# Altium integrated library lib_st.IntLib: 440 symbols (part 19 of 57)
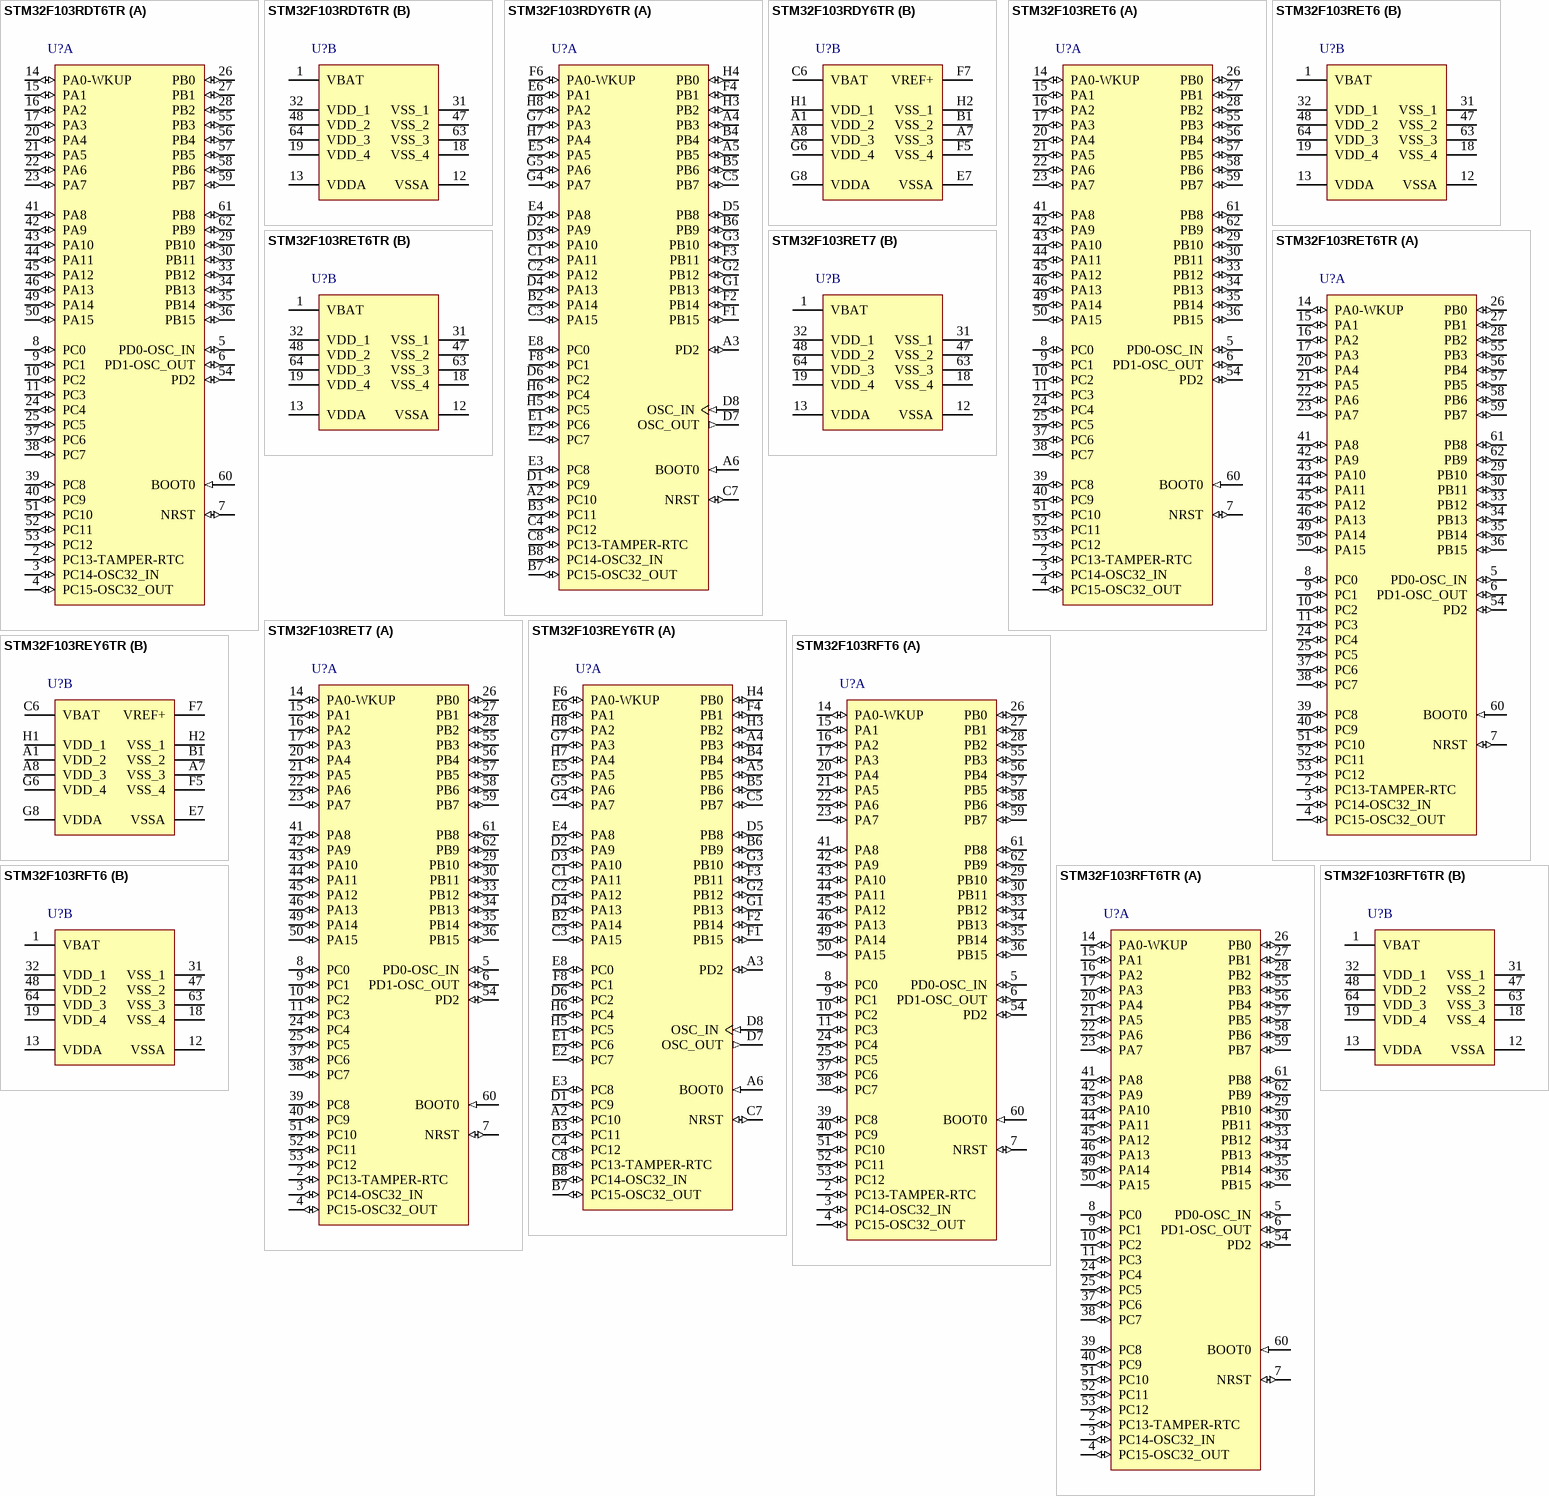
[diagram p106: symbols STM32F103RDT6TR to STM32F103RFT6TR]

## STM32F103RFT6TR
designator U?
ARM Cortex-M3 32-bit MCU, 768 KB Flash, 96 KB Internal RAM, 51 I/Os, 64-pin LQFP, -40 to 85 degC, Tape and Reel; PartNumber: STM32F103RFT6TR; A/D Converter: 3x12-bit (16 Channel); D/A Converter: 2x12-bit (2 Channel); FLASH Size (Prog) (kB): 768; I/Os (High Current): 51; Internal RAM Size (kB): 96; Operating Frequency(F) (Processor speed) (MHz): 72; Supply Voltage(Vcc) min (V): 2; DatasheetVersion: Rev. 3; PackageVersion: Rev. 4, 06/2013; PackageReference: LQFP64; PackageDescription: 64-Pin Low Profile Quad Flat Package, 10 x 10 mm Body, 0.5 mm Pitch; Supplier 1: Digi-Key; Supplier Part Number 1: STM32F103RFT6TR-ND; Supplier 2: Mouser; Supplier Part Number 2: 511-STM32F103RFT6TR; Core: ARM Cortex-M3; Packing: Tape and Reel; Mounting Technology: Surface Mount; ComponentLink1Description: Manufacturer URL; ComponentLink1URL: http://www.st.com/web/en/home.html; ComponentLink2Description: Datasheet; ComponentLink2URL: http://www.st.com/st-web-ui/static/active/en/resource/technical/document/datasheet/CD00253742.pdf; ComponentLink3Description: Package Specification; ComponentLink3URL: http://www.st.com/st-web-ui/static/active/en/resource/technical/document/datasheet/DM00037051.pdf
footprint STM-LQFP64_N (Thin QFP, 64-Leads, Body 10x10mm, Pitch 0.5mm, IPC Medium Density)
footprint STM-LQFP64_L (Thin QFP, 64-Leads, Body 10x10mm, Pitch 0.5mm, IPC High Density)
footprint STM-LQFP64_M (Thin QFP, 64-Leads, Body 10x10mm, Pitch 0.5mm, IPC Low Density)
footprint STM-LQFP64_V (Thin QFP, 64-Leads, Body 10x10mm, Pitch 0.5mm, ST Recommended)
part A pins: 2 PC13-TAMPER-RTC (io) "PC13-TAMPER-RTC/PC13/TAMPER-RTC", 3 PC14-OSC32_IN (io) "PC14-OSC32_IN/PC14/OSC32_IN", 4 PC15-OSC32_OUT (io) "PC15-OSC32_OUT/PC15/OSC32_OUT", 5 PD0-OSC_IN (io) "PD0/OSC_IN", 6 PD1-OSC_OUT (io) "PD1/OSC_OUT", 7 NRST (io), 8 PC0 (io) "PC0/ADC123_IN10", 9 PC1 (io) "PC1/ADC123_IN11", 10 PC2 (io) "PC2/ADC123_IN12", 11 PC3 (io) "PC3/ADC123_IN13", 14 PA0-WKUP (io) "PA0-WKUP/PA0/WKUP/USART2_CTS/ADC123_IN0/TIM2_CH1_ETR/TIM5_CH1/TIM8_ETR", 15 PA1 (io) "PA1/USART2_RTS/ADC123_IN1/TIM5_CH2/TIM2_CH2", 16 PA2 (io) "PA2/USART2_TX/TIM5_CH3/ADC123_IN2/TIM9_CH1/TIM2_CH3", 17 PA3 (io) "PA3/USART2_RX/TIM5_CH4/ADC123_IN3/TIM2_CH4/TIM9_CH2", 20 PA4 (io) "PA4/SPI1_NSS/USART2_CK/DAC_OUT1/ADC12_IN4", 21 PA5 (io) "PA5/SPI1_SCK/DAC_OUT2/ADC12_IN5", 22 PA6 (io) "PA6/SPI1_MISO/TIM8_BKIN/ADC12_IN6/TIM3_CH1/TIM13_CH1/TIM1_BKIN", 23 PA7 (io) "PA7/SPI1_MOSI/TIM8_CH1N/ADC12_IN7/TIM3_CH2/TIM14_CH1/TIM1_CH1N", 24 PC4 (io) "PC4/ADC12_IN14", 25 PC5 (io) "PC5/ADC12_IN15", 26 PB0 (io) "PB0/ADC12_IN8/TIM3_CH3/TIM8_CH2N/TIM1_CH2N", 27 PB1 (io) "PB1/ADC12_IN9/TIM3_CH4/TIM8_CH3N/TIM1_CH3N", 28 PB2 (io) "PB2/BOOT1", 29 PB10 (io) "PB10/I2C2_SCL/USART3_TX/TIM2_CH3", 30 PB11 (io) "PB11/I2C2_SDA/USART3_RX/TIM2_CH4", 33 PB12 (io) "PB12/SPI2_NSS/I2S2_WS/I2C2_SMBA/USART3_CK/TIM1_BKIN", 34 PB13 (io) "PB13/SPI2_SCK/I2S2_CK/USART3_CTS/TIM1_CH1N", 35 PB14 (io) "PB14/SPI2_MISO/TIM1_CH2N/USART3_RTS/TIM12_CH1", 36 PB15 (io) "PB15/SPI2_MOSI/I2S2_SD/TIM1_CH3N/TIM12_CH2", 37 PC6 (io) "PC6/I2S2_MCK/TIM8_CH1/SDIO_D6/TIM3_CH1", 38 PC7 (io) "PC7/I2S3_MCK/TIM8_CH2/SDIO_D7/TIM3_CH2", 39 PC8 (io) "PC8/TIM8_CH3/SDIO_D0/TIM3_CH3", 40 PC9 (io) "PC9/TIM8_CH4/SDIO_D1/TIM3_CH4", 41 PA8 (io) "PA8/USART1_CK/TIM1_CH1/MCO", 42 PA9 (io) "PA9/USART1_TX/TIM1_CH2", 43 PA10 (io) "PA10/USART1_RX/TIM1_CH3", 44 PA11 (io) "PA11/USART1_CTS/USBDM/CAN_RX/TIM1_CH4", 45 PA12 (io) "PA12/USART1_RTS/USBDP/CAN_TX/TIM1_ETR", 46 PA13 (io) "PA13/JTMS-SWDIO", 49 PA14 (io) "PA14/JTCK-SWCLK", 50 PA15 (io) "PA15/JTDI/SPI3_NSS/I2S3_WS/TIM2_CH1_ETR/SPI1_NSS", 51 PC10 (io) "PC10/UART4_TX/SDIO_D2/USART3_TX", 52 PC11 (io) "PC11/UART4_RX/SDIO_D3/USART3_RX", 53 PC12 (io) "PC12/UART5_TX/SDIO_CK/USART3_CK", 54 PD2 (io) "PD2/TIM3_ETR/UART5_RX/SDIO_CMD", 55 PB3 (io) "PB3/JTDO/SPI3_SCK/I2S3_CK/TRACESWO/TIM2_CH2/SPI1_SCK", 56 PB4 (io) "PB4/NJTRST/SPI3_MISO/TIM3_CH1/SPI1_MISO", 57 PB5 (io) "PB5/I2C1_SMBA/SPI3_MOSI/I2S3_SD/TIM3_CH2/SPI1_MOSI", 58 PB6 (io) "PB6/I2C1_SCL/TIM4_CH1/USART1_TX", 59 PB7 (io) "PB7/I2C1_SDA/TIM4_CH2/USART1_RX", 60 BOOT0 (in), 61 PB8 (io) "PB8/TIM4_CH3/SDIO_D4/TIM10_CH1/I2C1_SCL/CAN_RX", 62 PB9 (io) "PB9/TIM4_CH4/SDIO_D5/TIM11_CH1/I2C1_SDA/CAN_TX"
part B pins: 1 VBAT (power), 12 VSSA (power), 13 VDDA (power), 18 VSS_4 (power), 19 VDD_4 (power), 31 VSS_1 (power), 32 VDD_1 (power), 47 VSS_2 (power), 48 VDD_2 (power), 63 VSS_3 (power), 64 VDD_3 (power)

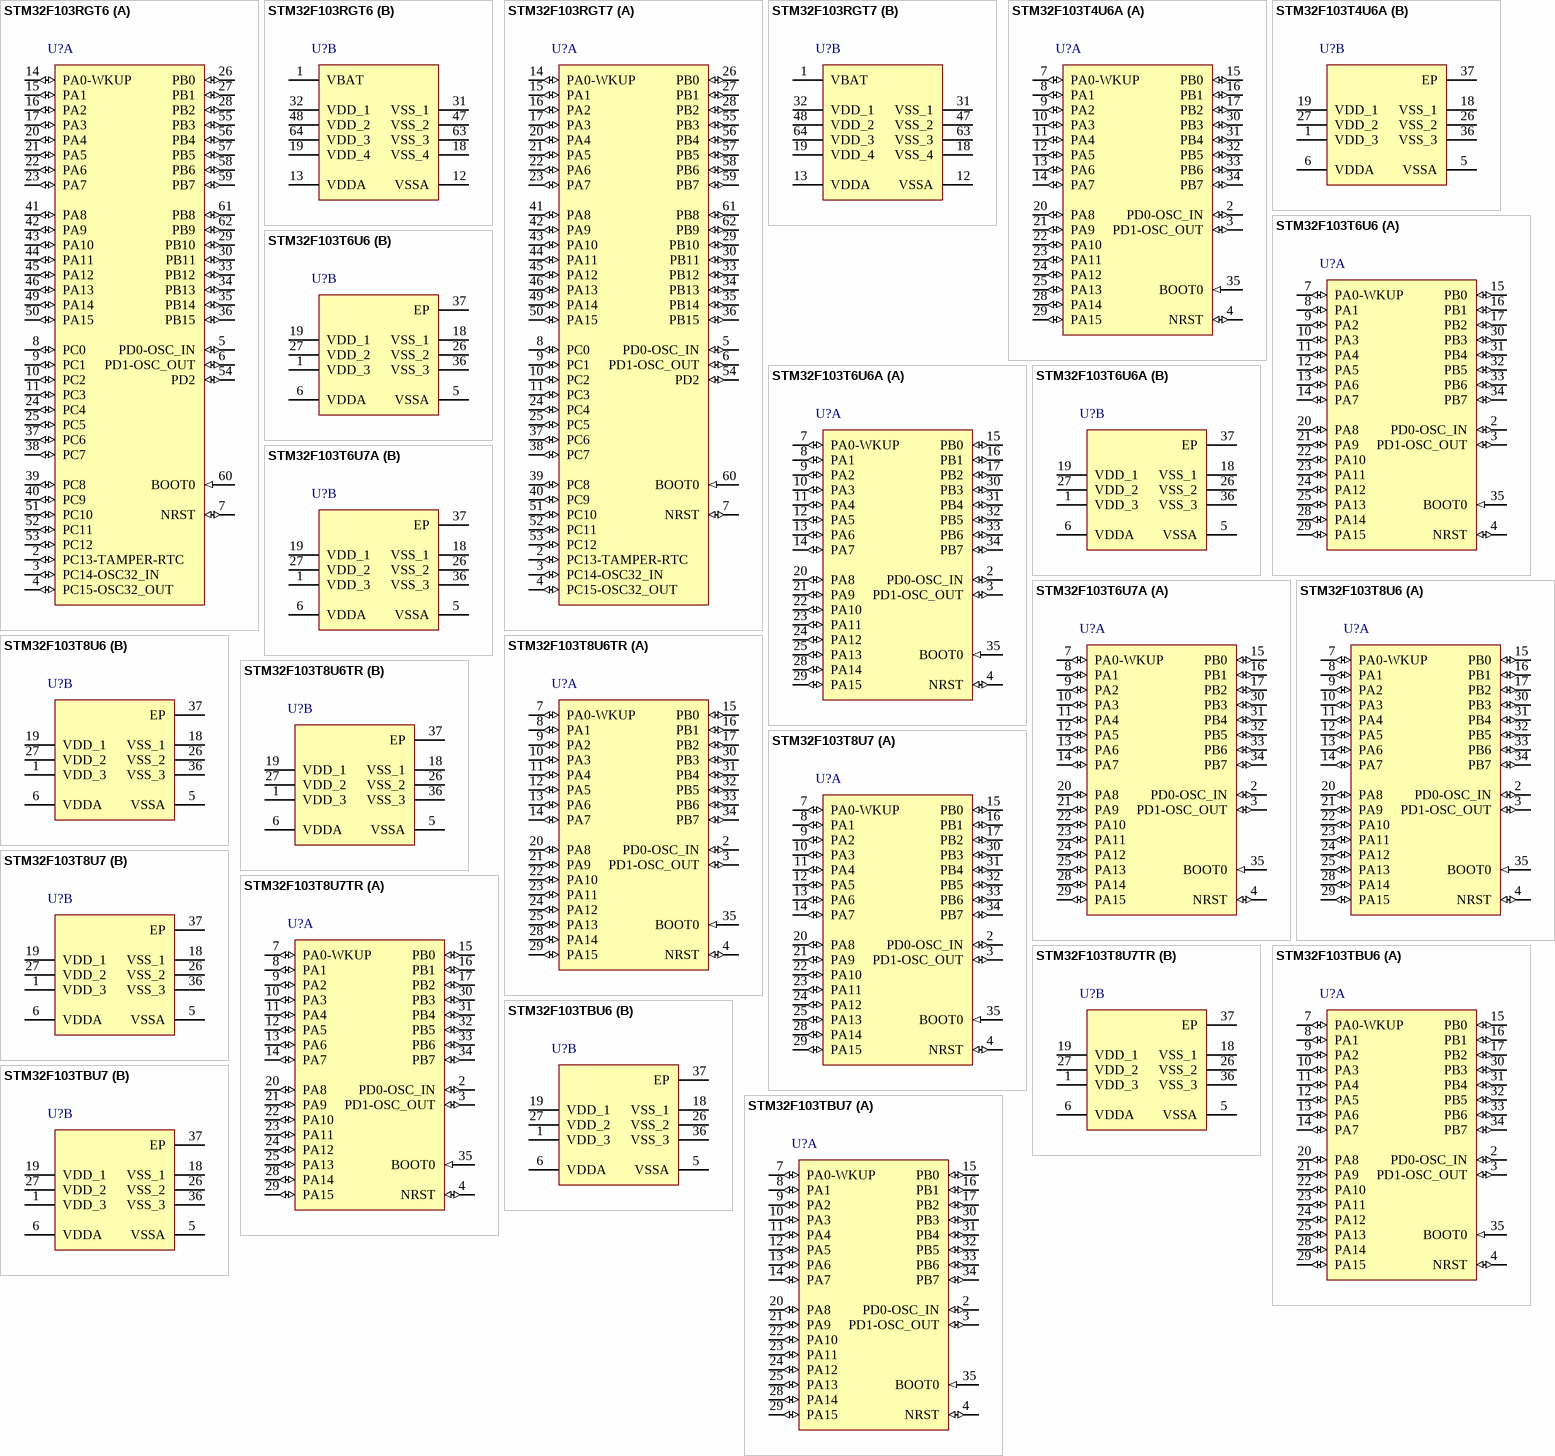
[diagram p30: symbols STM32F103RGT6 to STM32F103TBU7]

## STM32F103RGT6
designator U?
ARM Cortex-M3 32-bit MCU, 1024 KB Flash, 96 KB Internal RAM, 51 I/Os, 64-pin LQFP, -40 to 85 degC, Tray; PartNumber: STM32F103RGT6; A/D Converter: 3x12-bit (16 Channel); D/A Converter: 2x12-bit (2 Channel); FLASH Size (Prog) (kB): 1024; I/Os (High Current): 51; Internal RAM Size (kB): 96; Operating Frequency(F) (Processor speed) (MHz): 72; Supply Voltage(Vcc) min (V): 2; DatasheetVersion: Rev. 3; PackageVersion: Rev. 4, 06/2013; PackageReference: LQFP64; PackageDescription: 64-Pin Low Profile Quad Flat Package, 10 x 10 mm Body, 0.5 mm Pitch; Supplier 1: Digi-Key; Supplier Part Number 1: 497-11118-ND; Supplier 2: Farnell; Supplier Part Number 2: 2215220; Supplier 3: Newark; Supplier Part Number 3: 21T4016; Supplier 4: Mouser; Supplier Part Number 4: 511-STM32F103RGT6; Core: ARM Cortex-M3; Packing: Tray; Mounting Technology: Surface Mount; ComponentLink1Description: Manufacturer URL; ComponentLink1URL: http://www.st.com/web/en/home.html; ComponentLink2Description: Datasheet; ComponentLink2URL: http://www.st.com/st-web-ui/static/active/en/resource/technical/document/datasheet/CD00253742.pdf; ComponentLink3Description: Package Specification; ComponentLink3URL: http://www.st.com/st-web-ui/static/active/en/resource/technical/document/datasheet/DM00037051.pdf
footprint STM-LQFP64_N (Thin QFP, 64-Leads, Body 10x10mm, Pitch 0.5mm, IPC Medium Density)
footprint STM-LQFP64_L (Thin QFP, 64-Leads, Body 10x10mm, Pitch 0.5mm, IPC High Density)
footprint STM-LQFP64_M (Thin QFP, 64-Leads, Body 10x10mm, Pitch 0.5mm, IPC Low Density)
footprint STM-LQFP64_V (Thin QFP, 64-Leads, Body 10x10mm, Pitch 0.5mm, ST Recommended)
part A pins: 2 PC13-TAMPER-RTC (io) "PC13-TAMPER-RTC/PC13/TAMPER-RTC", 3 PC14-OSC32_IN (io) "PC14-OSC32_IN/PC14/OSC32_IN", 4 PC15-OSC32_OUT (io) "PC15-OSC32_OUT/PC15/OSC32_OUT", 5 PD0-OSC_IN (io) "PD0/OSC_IN", 6 PD1-OSC_OUT (io) "PD1/OSC_OUT", 7 NRST (io), 8 PC0 (io) "PC0/ADC123_IN10", 9 PC1 (io) "PC1/ADC123_IN11", 10 PC2 (io) "PC2/ADC123_IN12", 11 PC3 (io) "PC3/ADC123_IN13", 14 PA0-WKUP (io) "PA0-WKUP/PA0/WKUP/USART2_CTS/ADC123_IN0/TIM2_CH1_ETR/TIM5_CH1/TIM8_ETR", 15 PA1 (io) "PA1/USART2_RTS/ADC123_IN1/TIM5_CH2/TIM2_CH2", 16 PA2 (io) "PA2/USART2_TX/TIM5_CH3/ADC123_IN2/TIM9_CH1/TIM2_CH3", 17 PA3 (io) "PA3/USART2_RX/TIM5_CH4/ADC123_IN3/TIM2_CH4/TIM9_CH2", 20 PA4 (io) "PA4/SPI1_NSS/USART2_CK/DAC_OUT1/ADC12_IN4", 21 PA5 (io) "PA5/SPI1_SCK/DAC_OUT2/ADC12_IN5", 22 PA6 (io) "PA6/SPI1_MISO/TIM8_BKIN/ADC12_IN6/TIM3_CH1/TIM13_CH1/TIM1_BKIN", 23 PA7 (io) "PA7/SPI1_MOSI/TIM8_CH1N/ADC12_IN7/TIM3_CH2/TIM14_CH1/TIM1_CH1N", 24 PC4 (io) "PC4/ADC12_IN14", 25 PC5 (io) "PC5/ADC12_IN15", 26 PB0 (io) "PB0/ADC12_IN8/TIM3_CH3/TIM8_CH2N/TIM1_CH2N", 27 PB1 (io) "PB1/ADC12_IN9/TIM3_CH4/TIM8_CH3N/TIM1_CH3N", 28 PB2 (io) "PB2/BOOT1", 29 PB10 (io) "PB10/I2C2_SCL/USART3_TX/TIM2_CH3", 30 PB11 (io) "PB11/I2C2_SDA/USART3_RX/TIM2_CH4", 33 PB12 (io) "PB12/SPI2_NSS/I2S2_WS/I2C2_SMBA/USART3_CK/TIM1_BKIN", 34 PB13 (io) "PB13/SPI2_SCK/I2S2_CK/USART3_CTS/TIM1_CH1N", 35 PB14 (io) "PB14/SPI2_MISO/TIM1_CH2N/USART3_RTS/TIM12_CH1", 36 PB15 (io) "PB15/SPI2_MOSI/I2S2_SD/TIM1_CH3N/TIM12_CH2", 37 PC6 (io) "PC6/I2S2_MCK/TIM8_CH1/SDIO_D6/TIM3_CH1", 38 PC7 (io) "PC7/I2S3_MCK/TIM8_CH2/SDIO_D7/TIM3_CH2", 39 PC8 (io) "PC8/TIM8_CH3/SDIO_D0/TIM3_CH3", 40 PC9 (io) "PC9/TIM8_CH4/SDIO_D1/TIM3_CH4", 41 PA8 (io) "PA8/USART1_CK/TIM1_CH1/MCO", 42 PA9 (io) "PA9/USART1_TX/TIM1_CH2", 43 PA10 (io) "PA10/USART1_RX/TIM1_CH3", 44 PA11 (io) "PA11/USART1_CTS/USBDM/CAN_RX/TIM1_CH4", 45 PA12 (io) "PA12/USART1_RTS/USBDP/CAN_TX/TIM1_ETR", 46 PA13 (io) "PA13/JTMS-SWDIO", 49 PA14 (io) "PA14/JTCK-SWCLK", 50 PA15 (io) "PA15/JTDI/SPI3_NSS/I2S3_WS/TIM2_CH1_ETR/SPI1_NSS", 51 PC10 (io) "PC10/UART4_TX/SDIO_D2/USART3_TX", 52 PC11 (io) "PC11/UART4_RX/SDIO_D3/USART3_RX", 53 PC12 (io) "PC12/UART5_TX/SDIO_CK/USART3_CK", 54 PD2 (io) "PD2/TIM3_ETR/UART5_RX/SDIO_CMD", 55 PB3 (io) "PB3/JTDO/SPI3_SCK/I2S3_CK/TRACESWO/TIM2_CH2/SPI1_SCK", 56 PB4 (io) "PB4/NJTRST/SPI3_MISO/TIM3_CH1/SPI1_MISO", 57 PB5 (io) "PB5/I2C1_SMBA/SPI3_MOSI/I2S3_SD/TIM3_CH2/SPI1_MOSI", 58 PB6 (io) "PB6/I2C1_SCL/TIM4_CH1/USART1_TX", 59 PB7 (io) "PB7/I2C1_SDA/TIM4_CH2/USART1_RX", 60 BOOT0 (in), 61 PB8 (io) "PB8/TIM4_CH3/SDIO_D4/TIM10_CH1/I2C1_SCL/CAN_RX", 62 PB9 (io) "PB9/TIM4_CH4/SDIO_D5/TIM11_CH1/I2C1_SDA/CAN_TX"
part B pins: 1 VBAT (power), 12 VSSA (power), 13 VDDA (power), 18 VSS_4 (power), 19 VDD_4 (power), 31 VSS_1 (power), 32 VDD_1 (power), 47 VSS_2 (power), 48 VDD_2 (power), 63 VSS_3 (power), 64 VDD_3 (power)

## STM32F103RGT7
designator U?
ARM Cortex-M3 32-bit MCU, 1024 KB Flash, 96 KB Internal RAM, 51 I/Os, 64-pin LQFP, -40 to 105 degC, Tray; PartNumber: STM32F103RGT7; A/D Converter: 3x12-bit (16 Channel); D/A Converter: 2x12-bit (2 Channel); FLASH Size (Prog) (kB): 1024; I/Os (High Current): 51; Internal RAM Size (kB): 96; Operating Frequency(F) (Processor speed) (MHz): 72; Supply Voltage(Vcc) min (V): 2; DatasheetVersion: Rev. 3; PackageVersion: Rev. 4, 06/2013; PackageReference: LQFP64; PackageDescription: 64-Pin Low Profile Quad Flat Package, 10 x 10 mm Body, 0.5 mm Pitch; Supplier 1: Digi-Key; Supplier Part Number 1: STM32F103RGT7-ND; Supplier 2: Farnell; Supplier Part Number 2: 2333174; Supplier 3: Newark; Supplier Part Number 3: 99W9789; Supplier 4: Newark; Supplier Part Number 4: 73T2303; Supplier 5: Mouser; Supplier Part Number 5: 511-STM32F103RGT7; Core: ARM Cortex-M3; Packing: Tray; Mounting Technology: Surface Mount; ComponentLink1Description: Manufacturer URL; ComponentLink1URL: http://www.st.com/web/en/home.html; ComponentLink2Description: Datasheet; ComponentLink2URL: http://www.st.com/st-web-ui/static/active/en/resource/technical/document/datasheet/CD00253742.pdf; ComponentLink3Description: Package Specification; ComponentLink3URL: http://www.st.com/st-web-ui/static/active/en/resource/technical/document/datasheet/DM00037051.pdf
footprint STM-LQFP64_N (Thin QFP, 64-Leads, Body 10x10mm, Pitch 0.5mm, IPC Medium Density)
footprint STM-LQFP64_L (Thin QFP, 64-Leads, Body 10x10mm, Pitch 0.5mm, IPC High Density)
footprint STM-LQFP64_M (Thin QFP, 64-Leads, Body 10x10mm, Pitch 0.5mm, IPC Low Density)
footprint STM-LQFP64_V (Thin QFP, 64-Leads, Body 10x10mm, Pitch 0.5mm, ST Recommended)
part A pins: 2 PC13-TAMPER-RTC (io) "PC13-TAMPER-RTC/PC13/TAMPER-RTC", 3 PC14-OSC32_IN (io) "PC14-OSC32_IN/PC14/OSC32_IN", 4 PC15-OSC32_OUT (io) "PC15-OSC32_OUT/PC15/OSC32_OUT", 5 PD0-OSC_IN (io) "PD0/OSC_IN", 6 PD1-OSC_OUT (io) "PD1/OSC_OUT", 7 NRST (io), 8 PC0 (io) "PC0/ADC123_IN10", 9 PC1 (io) "PC1/ADC123_IN11", 10 PC2 (io) "PC2/ADC123_IN12", 11 PC3 (io) "PC3/ADC123_IN13", 14 PA0-WKUP (io) "PA0-WKUP/PA0/WKUP/USART2_CTS/ADC123_IN0/TIM2_CH1_ETR/TIM5_CH1/TIM8_ETR", 15 PA1 (io) "PA1/USART2_RTS/ADC123_IN1/TIM5_CH2/TIM2_CH2", 16 PA2 (io) "PA2/USART2_TX/TIM5_CH3/ADC123_IN2/TIM9_CH1/TIM2_CH3", 17 PA3 (io) "PA3/USART2_RX/TIM5_CH4/ADC123_IN3/TIM2_CH4/TIM9_CH2", 20 PA4 (io) "PA4/SPI1_NSS/USART2_CK/DAC_OUT1/ADC12_IN4", 21 PA5 (io) "PA5/SPI1_SCK/DAC_OUT2/ADC12_IN5", 22 PA6 (io) "PA6/SPI1_MISO/TIM8_BKIN/ADC12_IN6/TIM3_CH1/TIM13_CH1/TIM1_BKIN", 23 PA7 (io) "PA7/SPI1_MOSI/TIM8_CH1N/ADC12_IN7/TIM3_CH2/TIM14_CH1/TIM1_CH1N", 24 PC4 (io) "PC4/ADC12_IN14", 25 PC5 (io) "PC5/ADC12_IN15", 26 PB0 (io) "PB0/ADC12_IN8/TIM3_CH3/TIM8_CH2N/TIM1_CH2N", 27 PB1 (io) "PB1/ADC12_IN9/TIM3_CH4/TIM8_CH3N/TIM1_CH3N", 28 PB2 (io) "PB2/BOOT1", 29 PB10 (io) "PB10/I2C2_SCL/USART3_TX/TIM2_CH3", 30 PB11 (io) "PB11/I2C2_SDA/USART3_RX/TIM2_CH4", 33 PB12 (io) "PB12/SPI2_NSS/I2S2_WS/I2C2_SMBA/USART3_CK/TIM1_BKIN", 34 PB13 (io) "PB13/SPI2_SCK/I2S2_CK/USART3_CTS/TIM1_CH1N", 35 PB14 (io) "PB14/SPI2_MISO/TIM1_CH2N/USART3_RTS/TIM12_CH1", 36 PB15 (io) "PB15/SPI2_MOSI/I2S2_SD/TIM1_CH3N/TIM12_CH2", 37 PC6 (io) "PC6/I2S2_MCK/TIM8_CH1/SDIO_D6/TIM3_CH1", 38 PC7 (io) "PC7/I2S3_MCK/TIM8_CH2/SDIO_D7/TIM3_CH2", 39 PC8 (io) "PC8/TIM8_CH3/SDIO_D0/TIM3_CH3", 40 PC9 (io) "PC9/TIM8_CH4/SDIO_D1/TIM3_CH4", 41 PA8 (io) "PA8/USART1_CK/TIM1_CH1/MCO", 42 PA9 (io) "PA9/USART1_TX/TIM1_CH2", 43 PA10 (io) "PA10/USART1_RX/TIM1_CH3", 44 PA11 (io) "PA11/USART1_CTS/USBDM/CAN_RX/TIM1_CH4", 45 PA12 (io) "PA12/USART1_RTS/USBDP/CAN_TX/TIM1_ETR", 46 PA13 (io) "PA13/JTMS-SWDIO", 49 PA14 (io) "PA14/JTCK-SWCLK", 50 PA15 (io) "PA15/JTDI/SPI3_NSS/I2S3_WS/TIM2_CH1_ETR/SPI1_NSS", 51 PC10 (io) "PC10/UART4_TX/SDIO_D2/USART3_TX", 52 PC11 (io) "PC11/UART4_RX/SDIO_D3/USART3_RX", 53 PC12 (io) "PC12/UART5_TX/SDIO_CK/USART3_CK", 54 PD2 (io) "PD2/TIM3_ETR/UART5_RX/SDIO_CMD", 55 PB3 (io) "PB3/JTDO/SPI3_SCK/I2S3_CK/TRACESWO/TIM2_CH2/SPI1_SCK", 56 PB4 (io) "PB4/NJTRST/SPI3_MISO/TIM3_CH1/SPI1_MISO", 57 PB5 (io) "PB5/I2C1_SMBA/SPI3_MOSI/I2S3_SD/TIM3_CH2/SPI1_MOSI", 58 PB6 (io) "PB6/I2C1_SCL/TIM4_CH1/USART1_TX", 59 PB7 (io) "PB7/I2C1_SDA/TIM4_CH2/USART1_RX", 60 BOOT0 (in), 61 PB8 (io) "PB8/TIM4_CH3/SDIO_D4/TIM10_CH1/I2C1_SCL/CAN_RX", 62 PB9 (io) "PB9/TIM4_CH4/SDIO_D5/TIM11_CH1/I2C1_SDA/CAN_TX"
part B pins: 1 VBAT (power), 12 VSSA (power), 13 VDDA (power), 18 VSS_4 (power), 19 VDD_4 (power), 31 VSS_1 (power), 32 VDD_1 (power), 47 VSS_2 (power), 48 VDD_2 (power), 63 VSS_3 (power), 64 VDD_3 (power)

## STM32F103T4U6A
designator U?
ARM Cortex-M3 32-bit MCU, 16 KB Flash, 6 KB Internal RAM, 26 I/Os, 36-pin VFQFPN, -40 to 85 degC, Tray; PartNumber: STM32F103T4U6A; A/D Converter: 2x12-bit (10 Channel); FLASH Size (Prog) (kB): 16; I/Os (High Current): 26; Internal RAM Size (kB): 6; Operating Frequency(F) (Processor speed) (MHz): 72; Supply Voltage(Vcc) min (V): 2; DatasheetVersion: Rev. 6; PackageVersion: Rev. 16, 08/2013; PackageReference: VFQFPN36; PackageDescription: 36-Pin Quad Flat No-Lead, 6 x 6 x 1.0 mm Body, 0.5 mm Pitch, Exposed Pad; Supplier 1: Digi-Key; Supplier Part Number 1: 497-8318-ND; Supplier 2: Newark; Supplier Part Number 2: 57P1244; Supplier 3: Mouser; Supplier Part Number 3: 511-STM32F103T4U6A; Core: ARM Cortex-M3; Packing: Tray; Mounting Technology: Surface Mount; ComponentLink1Description: Manufacturer URL; ComponentLink1URL: http://www.st.com/web/en/home.html; ComponentLink2Description: Datasheet; ComponentLink2URL: http://www.st.com/st-web-ui/static/active/en/resource/technical/document/datasheet/CD00210843.pdf; ComponentLink3Description: Package Specification; ComponentLink3URL: http://www.st.com/st-web-ui/static/active/en/resource/technical/document/datasheet/CD00161561.pdf
footprint STM-VFQFPN36_N (QFN, 36-Leads, Body 6.13x6.13mm, Pitch 0.5mm, Thermal Pad 3x3mm, IPC Medium Density)
footprint STM-VFQFPN36_L (QFN, 36-Leads, Body 6.13x6.13mm, Pitch 0.5mm, Thermal Pad 3x3mm, IPC High Density)
footprint STM-VFQFPN36_M (QFN, 36-Leads, Body 6.13x6.13mm, Pitch 0.5mm, Thermal Pad 3x3mm, IPC Low Density)
part A pins: 2 PD0-OSC_IN (io) "PD0/OSC_IN", 3 PD1-OSC_OUT (io) "PD1/OSC_OUT", 4 NRST (io), 7 PA0-WKUP (io) "PA0-WKUP/PA0/WKUP/USART2_CTS/ADC12_IN0/TIM2_CH1_ETR", 8 PA1 (io) "PA1/USART2_RTS/ADC12_IN1/TIM2_CH2", 9 PA2 (io) "PA2/USART2_TX/ADC12_IN2/TIM2_CH3", 10 PA3 (io) "PA3/USART2_RX/ADC12_IN3/TIM2_CH4", 11 PA4 (io) "PA4/SPI1_NSS/USART2_CK/ADC12_IN4", 12 PA5 (io) "PA5/SPI1_SCK/ADC12_IN5", 13 PA6 (io) "PA6/SPI1_MISO/ADC12_IN6/TIM3_CH1/TIM1_BKIN", 14 PA7 (io) "PA7/SPI1_MOSI/ADC12_IN7/TIM3_CH2/TIM1_CH1N", 15 PB0 (io) "PB0/ADC12_IN8/TIM3_CH3/TIM1_CH2N", 16 PB1 (io) "PB1/ADC12_IN9/TIM3_CH4/TIM1_CH3N", 17 PB2 (io) "PB2/BOOT1", 20 PA8 (io) "PA8/USART1_CK/TIM1_CH1/MCO", 21 PA9 (io) "PA9/USART1_TX/TIM1_CH2", 22 PA10 (io) "PA10/USART1_RX/TIM1_CH3", 23 PA11 (io) "PA11/USART1_CTS/CAN_RX/TIM1_CH4/USBDM", 24 PA12 (io) "PA12/USART1_RTS/CAN_TX/TIM1_ETR/USBDP", 25 PA13 (io) "PA13/JTMS/SWDIO", 28 PA14 (io) "PA14/JTCK/SWCLK", 29 PA15 (io) "PA15/JTDI/TIM2_CH1_ETR/SPI1_NSS", 30 PB3 (io) "PB3/JTDO/TIM2_CH2/TRACESWO/SPI1_SCK", 31 PB4 (io) "PB4/NJTRST/TIM3_CH1/SPI1_MISO", 32 PB5 (io) "PB5/I2C1_SMBA/TIM3_CH2/SPI1_MOSI", 33 PB6 (io) "PB6/I2C1_SCL/USART1_TX", 34 PB7 (io) "PB7/I2C1_SDA/USART1_RX", 35 BOOT0 (in)
part B pins: 1 VDD_3 (power), 5 VSSA (power), 6 VDDA (power), 18 VSS_1 (power), 19 VDD_1 (power), 26 VSS_2 (power), 27 VDD_2 (power), 36 VSS_3 (power), 37 EP (power)

## STM32F103T6U6
designator U?
ARM Cortex-M3 32-bit MCU, 32 KB Flash, 10 KB Internal RAM, 26 I/Os, 36-pin VFQFPN, -40 to 85 degC, Tray; PartNumber: STM32F103T6U6; A/D Converter: 2x12-bit (10 Channel); FLASH Size (Prog) (kB): 32; I/Os (High Current): 26; Internal RAM Size (kB): 10; Operating Frequency(F) (Processor speed) (MHz): 72; Supply Voltage(Vcc) min (V): 2; DatasheetVersion: Rev. 6; PackageVersion: Rev. 16, 08/2013; PackageReference: VFQFPN36; PackageDescription: 36-Pin Quad Flat No-Lead, 6 x 6 x 1.0 mm Body, 0.5 mm Pitch, Exposed Pad; Supplier 1: Digi-Key; Supplier Part Number 1: STM32F103T6U6-ND; Supplier 2: Farnell; Supplier Part Number 2: 1606328; Supplier 3: Mouser; Supplier Part Number 3: 511-STM32F103T6U6; Core: ARM Cortex-M3; Packing: Tray; Mounting Technology: Surface Mount; ComponentLink1Description: Manufacturer URL; ComponentLink1URL: http://www.st.com/web/en/home.html; ComponentLink2Description: Datasheet; ComponentLink2URL: http://www.st.com/st-web-ui/static/active/en/resource/technical/document/datasheet/CD00210843.pdf; ComponentLink3Description: Package Specification; ComponentLink3URL: http://www.st.com/st-web-ui/static/active/en/resource/technical/document/datasheet/CD00161561.pdf
footprint STM-VFQFPN36_N (QFN, 36-Leads, Body 6.13x6.13mm, Pitch 0.5mm, Thermal Pad 3x3mm, IPC Medium Density)
footprint STM-VFQFPN36_L (QFN, 36-Leads, Body 6.13x6.13mm, Pitch 0.5mm, Thermal Pad 3x3mm, IPC High Density)
footprint STM-VFQFPN36_M (QFN, 36-Leads, Body 6.13x6.13mm, Pitch 0.5mm, Thermal Pad 3x3mm, IPC Low Density)
part A pins: 2 PD0-OSC_IN (io) "PD0/OSC_IN", 3 PD1-OSC_OUT (io) "PD1/OSC_OUT", 4 NRST (io), 7 PA0-WKUP (io) "PA0-WKUP/PA0/WKUP/USART2_CTS/ADC12_IN0/TIM2_CH1_ETR", 8 PA1 (io) "PA1/USART2_RTS/ADC12_IN1/TIM2_CH2", 9 PA2 (io) "PA2/USART2_TX/ADC12_IN2/TIM2_CH3", 10 PA3 (io) "PA3/USART2_RX/ADC12_IN3/TIM2_CH4", 11 PA4 (io) "PA4/SPI1_NSS/USART2_CK/ADC12_IN4", 12 PA5 (io) "PA5/SPI1_SCK/ADC12_IN5", 13 PA6 (io) "PA6/SPI1_MISO/ADC12_IN6/TIM3_CH1/TIM1_BKIN", 14 PA7 (io) "PA7/SPI1_MOSI/ADC12_IN7/TIM3_CH2/TIM1_CH1N", 15 PB0 (io) "PB0/ADC12_IN8/TIM3_CH3/TIM1_CH2N", 16 PB1 (io) "PB1/ADC12_IN9/TIM3_CH4/TIM1_CH3N", 17 PB2 (io) "PB2/BOOT1", 20 PA8 (io) "PA8/USART1_CK/TIM1_CH1/MCO", 21 PA9 (io) "PA9/USART1_TX/TIM1_CH2", 22 PA10 (io) "PA10/USART1_RX/TIM1_CH3", 23 PA11 (io) "PA11/USART1_CTS/CAN_RX/TIM1_CH4/USBDM", 24 PA12 (io) "PA12/USART1_RTS/CAN_TX/TIM1_ETR/USBDP", 25 PA13 (io) "PA13/JTMS/SWDIO", 28 PA14 (io) "PA14/JTCK/SWCLK", 29 PA15 (io) "PA15/JTDI/TIM2_CH1_ETR/SPI1_NSS", 30 PB3 (io) "PB3/JTDO/TIM2_CH2/TRACESWO/SPI1_SCK", 31 PB4 (io) "PB4/NJTRST/TIM3_CH1/SPI1_MISO", 32 PB5 (io) "PB5/I2C1_SMBA/TIM3_CH2/SPI1_MOSI", 33 PB6 (io) "PB6/I2C1_SCL/USART1_TX", 34 PB7 (io) "PB7/I2C1_SDA/USART1_RX", 35 BOOT0 (in)
part B pins: 1 VDD_3 (power), 5 VSSA (power), 6 VDDA (power), 18 VSS_1 (power), 19 VDD_1 (power), 26 VSS_2 (power), 27 VDD_2 (power), 36 VSS_3 (power), 37 EP (power)

## STM32F103T6U6A
designator U?
ARM Cortex-M3 32-bit MCU, 32 KB Flash, 10 KB Internal RAM, 26 I/Os, 36-pin VFQFPN, -40 to 85 degC, Tray; PartNumber: STM32F103T6U6A; A/D Converter: 2x12-bit (10 Channel); FLASH Size (Prog) (kB): 32; I/Os (High Current): 26; Internal RAM Size (kB): 10; Operating Frequency(F) (Processor speed) (MHz): 72; Supply Voltage(Vcc) min (V): 2; DatasheetVersion: Rev. 6; PackageVersion: Rev. 16, 08/2013; PackageReference: VFQFPN36; PackageDescription: 36-Pin Quad Flat No-Lead, 6 x 6 x 1.0 mm Body, 0.5 mm Pitch, Exposed Pad; Supplier 1: Digi-Key; Supplier Part Number 1: 497-11530-ND; Supplier 2: Farnell; Supplier Part Number 2: 2333175; Supplier 3: Newark; Supplier Part Number 3: 99W9795; Supplier 4: Mouser; Supplier Part Number 4: 511-STM32F103T6U6A; Core: ARM Cortex-M3; Packing: Tray; Mounting Technology: Surface Mount; ComponentLink1Description: Manufacturer URL; ComponentLink1URL: http://www.st.com/web/en/home.html; ComponentLink2Description: Datasheet; ComponentLink2URL: http://www.st.com/st-web-ui/static/active/en/resource/technical/document/datasheet/CD00210843.pdf; ComponentLink3Description: Package Specification; ComponentLink3URL: http://www.st.com/st-web-ui/static/active/en/resource/technical/document/datasheet/CD00161561.pdf
footprint STM-VFQFPN36_N (QFN, 36-Leads, Body 6.13x6.13mm, Pitch 0.5mm, Thermal Pad 3x3mm, IPC Medium Density)
footprint STM-VFQFPN36_L (QFN, 36-Leads, Body 6.13x6.13mm, Pitch 0.5mm, Thermal Pad 3x3mm, IPC High Density)
footprint STM-VFQFPN36_M (QFN, 36-Leads, Body 6.13x6.13mm, Pitch 0.5mm, Thermal Pad 3x3mm, IPC Low Density)
part A pins: 2 PD0-OSC_IN (io) "PD0/OSC_IN", 3 PD1-OSC_OUT (io) "PD1/OSC_OUT", 4 NRST (io), 7 PA0-WKUP (io) "PA0-WKUP/PA0/WKUP/USART2_CTS/ADC12_IN0/TIM2_CH1_ETR", 8 PA1 (io) "PA1/USART2_RTS/ADC12_IN1/TIM2_CH2", 9 PA2 (io) "PA2/USART2_TX/ADC12_IN2/TIM2_CH3", 10 PA3 (io) "PA3/USART2_RX/ADC12_IN3/TIM2_CH4", 11 PA4 (io) "PA4/SPI1_NSS/USART2_CK/ADC12_IN4", 12 PA5 (io) "PA5/SPI1_SCK/ADC12_IN5", 13 PA6 (io) "PA6/SPI1_MISO/ADC12_IN6/TIM3_CH1/TIM1_BKIN", 14 PA7 (io) "PA7/SPI1_MOSI/ADC12_IN7/TIM3_CH2/TIM1_CH1N", 15 PB0 (io) "PB0/ADC12_IN8/TIM3_CH3/TIM1_CH2N", 16 PB1 (io) "PB1/ADC12_IN9/TIM3_CH4/TIM1_CH3N", 17 PB2 (io) "PB2/BOOT1", 20 PA8 (io) "PA8/USART1_CK/TIM1_CH1/MCO", 21 PA9 (io) "PA9/USART1_TX/TIM1_CH2", 22 PA10 (io) "PA10/USART1_RX/TIM1_CH3", 23 PA11 (io) "PA11/USART1_CTS/CAN_RX/TIM1_CH4/USBDM", 24 PA12 (io) "PA12/USART1_RTS/CAN_TX/TIM1_ETR/USBDP", 25 PA13 (io) "PA13/JTMS/SWDIO", 28 PA14 (io) "PA14/JTCK/SWCLK", 29 PA15 (io) "PA15/JTDI/TIM2_CH1_ETR/SPI1_NSS", 30 PB3 (io) "PB3/JTDO/TIM2_CH2/TRACESWO/SPI1_SCK", 31 PB4 (io) "PB4/NJTRST/TIM3_CH1/SPI1_MISO", 32 PB5 (io) "PB5/I2C1_SMBA/TIM3_CH2/SPI1_MOSI", 33 PB6 (io) "PB6/I2C1_SCL/USART1_TX", 34 PB7 (io) "PB7/I2C1_SDA/USART1_RX", 35 BOOT0 (in)
part B pins: 1 VDD_3 (power), 5 VSSA (power), 6 VDDA (power), 18 VSS_1 (power), 19 VDD_1 (power), 26 VSS_2 (power), 27 VDD_2 (power), 36 VSS_3 (power), 37 EP (power)

## STM32F103T6U7A
designator U?
ARM Cortex-M3 32-bit MCU, 32 KB Flash, 10 KB Internal RAM, 26 I/Os, 36-pin VFQFPN, -40 to 105 degC, Tray; PartNumber: STM32F103T6U7A; A/D Converter: 2x12-bit (10 Channel); FLASH Size (Prog) (kB): 32; I/Os (High Current): 26; Internal RAM Size (kB): 10; Operating Frequency(F) (Processor speed) (MHz): 72; Supply Voltage(Vcc) min (V): 2; DatasheetVersion: Rev. 6; PackageVersion: Rev. 16, 08/2013; PackageReference: VFQFPN36; PackageDescription: 36-Pin Quad Flat No-Lead, 6 x 6 x 1.0 mm Body, 0.5 mm Pitch, Exposed Pad; Supplier 1: Digi-Key; Supplier Part Number 1: 497-11531-ND; Supplier 2: Farnell; Supplier Part Number 2: 2333176; Supplier 3: Newark; Supplier Part Number 3: 99W9796; Supplier 4: Mouser; Supplier Part Number 4: 511-STM32F103T6U7A; Core: ARM Cortex-M3; Packing: Tray; Mounting Technology: Surface Mount; ComponentLink1Description: Manufacturer URL; ComponentLink1URL: http://www.st.com/web/en/home.html; ComponentLink2Description: Datasheet; ComponentLink2URL: http://www.st.com/st-web-ui/static/active/en/resource/technical/document/datasheet/CD00210843.pdf; ComponentLink3Description: Package Specification; ComponentLink3URL: http://www.st.com/st-web-ui/static/active/en/resource/technical/document/datasheet/CD00161561.pdf
footprint STM-VFQFPN36_N (QFN, 36-Leads, Body 6.13x6.13mm, Pitch 0.5mm, Thermal Pad 3x3mm, IPC Medium Density)
footprint STM-VFQFPN36_L (QFN, 36-Leads, Body 6.13x6.13mm, Pitch 0.5mm, Thermal Pad 3x3mm, IPC High Density)
footprint STM-VFQFPN36_M (QFN, 36-Leads, Body 6.13x6.13mm, Pitch 0.5mm, Thermal Pad 3x3mm, IPC Low Density)
part A pins: 2 PD0-OSC_IN (io) "PD0/OSC_IN", 3 PD1-OSC_OUT (io) "PD1/OSC_OUT", 4 NRST (io), 7 PA0-WKUP (io) "PA0-WKUP/PA0/WKUP/USART2_CTS/ADC12_IN0/TIM2_CH1_ETR", 8 PA1 (io) "PA1/USART2_RTS/ADC12_IN1/TIM2_CH2", 9 PA2 (io) "PA2/USART2_TX/ADC12_IN2/TIM2_CH3", 10 PA3 (io) "PA3/USART2_RX/ADC12_IN3/TIM2_CH4", 11 PA4 (io) "PA4/SPI1_NSS/USART2_CK/ADC12_IN4", 12 PA5 (io) "PA5/SPI1_SCK/ADC12_IN5", 13 PA6 (io) "PA6/SPI1_MISO/ADC12_IN6/TIM3_CH1/TIM1_BKIN", 14 PA7 (io) "PA7/SPI1_MOSI/ADC12_IN7/TIM3_CH2/TIM1_CH1N", 15 PB0 (io) "PB0/ADC12_IN8/TIM3_CH3/TIM1_CH2N", 16 PB1 (io) "PB1/ADC12_IN9/TIM3_CH4/TIM1_CH3N", 17 PB2 (io) "PB2/BOOT1", 20 PA8 (io) "PA8/USART1_CK/TIM1_CH1/MCO", 21 PA9 (io) "PA9/USART1_TX/TIM1_CH2", 22 PA10 (io) "PA10/USART1_RX/TIM1_CH3", 23 PA11 (io) "PA11/USART1_CTS/CAN_RX/TIM1_CH4/USBDM", 24 PA12 (io) "PA12/USART1_RTS/CAN_TX/TIM1_ETR/USBDP", 25 PA13 (io) "PA13/JTMS/SWDIO", 28 PA14 (io) "PA14/JTCK/SWCLK", 29 PA15 (io) "PA15/JTDI/TIM2_CH1_ETR/SPI1_NSS", 30 PB3 (io) "PB3/JTDO/TIM2_CH2/TRACESWO/SPI1_SCK", 31 PB4 (io) "PB4/NJTRST/TIM3_CH1/SPI1_MISO", 32 PB5 (io) "PB5/I2C1_SMBA/TIM3_CH2/SPI1_MOSI", 33 PB6 (io) "PB6/I2C1_SCL/USART1_TX", 34 PB7 (io) "PB7/I2C1_SDA/USART1_RX", 35 BOOT0 (in)
part B pins: 1 VDD_3 (power), 5 VSSA (power), 6 VDDA (power), 18 VSS_1 (power), 19 VDD_1 (power), 26 VSS_2 (power), 27 VDD_2 (power), 36 VSS_3 (power), 37 EP (power)

## STM32F103T8U6
designator U?
ARM Cortex-M3 32-bit MCU, 64 KB Flash, 20 KB Internal RAM, 26 I/Os, 36-pin VFQFPN, -40 to 85 degC, Tray; PartNumber: STM32F103T8U6; A/D Converter: 2x12-bit (10 Channel); FLASH Size (Prog) (kB): 64; I/Os (High Current): 26; Internal RAM Size (kB): 20; Operating Frequency(F) (Processor speed) (MHz): 72; Supply Voltage(Vcc) min (V): 2; DatasheetVersion: Rev. 16; PackageVersion: Rev. 16, 08/2013; PackageReference: VFQFPN36; PackageDescription: 36-Pin Quad Flat No-Lead, 6 x 6 x 1.0 mm Body, 0.5 mm Pitch, Exposed Pad; Supplier 1: Digi-Key; Supplier Part Number 1: 497-11532-ND; Supplier 2: Farnell; Supplier Part Number 2: 1606329; Supplier 3: Newark; Supplier Part Number 3: 11N8298; Supplier 4: Mouser; Supplier Part Number 4: 511-STM32F103T8U6; Core: ARM Cortex-M3; Packing: Tray; Mounting Technology: Surface Mount; ComponentLink1Description: Manufacturer URL; ComponentLink1URL: http://www.st.com/web/en/home.html; ComponentLink2Description: Datasheet; ComponentLink2URL: http://www.st.com/st-web-ui/static/active/en/resource/technical/document/datasheet/CD00161566.pdf; ComponentLink3Description: Package Specification; ComponentLink3URL: http://www.st.com/st-web-ui/static/active/en/resource/technical/document/datasheet/CD00161561.pdf
footprint STM-VFQFPN36_N (QFN, 36-Leads, Body 6.13x6.13mm, Pitch 0.5mm, Thermal Pad 3x3mm, IPC Medium Density)
footprint STM-VFQFPN36_L (QFN, 36-Leads, Body 6.13x6.13mm, Pitch 0.5mm, Thermal Pad 3x3mm, IPC High Density)
footprint STM-VFQFPN36_M (QFN, 36-Leads, Body 6.13x6.13mm, Pitch 0.5mm, Thermal Pad 3x3mm, IPC Low Density)
part A pins: 2 PD0-OSC_IN (io) "PD0/OSC_IN/CANRX", 3 PD1-OSC_OUT (io) "PD1/OSC_OUT/CANTX", 4 NRST (io), 7 PA0-WKUP (io) "PA0-WKUP/PA0/WKUP/USART2_CTS/ADC12_IN0/TIM2_CH1_ETR", 8 PA1 (io) "PA1/USART2_RTS/ADC12_IN1/TIM2_CH2", 9 PA2 (io) "PA2/USART2_TX/ADC12_IN2/TIM2_CH3", 10 PA3 (io) "PA3/USART2_RX/ADC12_IN3/TIM2_CH4", 11 PA4 (io) "PA4/SPI1_NSS/USART2_CK/ADC12_IN4", 12 PA5 (io) "PA5/SPI1_SCK/ADC12_IN5", 13 PA6 (io) "PA6/SPI1_MISO/ADC12_IN6/TIM3_CH1/TIM1_BKIN", 14 PA7 (io) "PA7/SPI1_MOSI/ADC12_IN7/TIM3_CH2/TIM1_CH1N", 15 PB0 (io) "PB0/ADC12_IN8/TIM3_CH3/TIM1_CH2N", 16 PB1 (io) "PB1/ADC12_IN9/TIM3_CH4/TIM1_CH3N", 17 PB2 (io) "PB2/BOOT1", 20 PA8 (io) "PA8/USART1_CK/TIM1_CH1/MCO", 21 PA9 (io) "PA9/USART1_TX/TIM1_CH2", 22 PA10 (io) "PA10/USART1_RX/TIM1_CH3", 23 PA11 (io) "PA11/USART1_CTS/CANRX/USBDM/TIM1_CH4", 24 PA12 (io) "PA12/USART1_RTS/CANTX/USBDP/TIM1_ETR", 25 PA13 (io) "PA13/JTMS/SWDIO", 28 PA14 (io) "PA14/JTCK/SWCLK", 29 PA15 (io) "PA15/JTDI/TIM2_CH1_ETR/SPI1_NSS", 30 PB3 (io) "PB3/JTDO/TIM2_CH2/TRACESWO/SPI1_SCK", 31 PB4 (io) "PB4/NJTRST/TIM3_CH1/SPI1_MISO", 32 PB5 (io) "PB5/I2C1_SMBAI/TIM3_CH2/SPI1_MOSI", 33 PB6 (io) "PB6/I2C1_SCL/TIM4_CH1/USART1_TX", 34 PB7 (io) "PB7/I2C1_SDA/TIM4_CH2/USART1_RX", 35 BOOT0 (in)
part B pins: 1 VDD_3 (power), 5 VSSA (power), 6 VDDA (power), 18 VSS_1 (power), 19 VDD_1 (power), 26 VSS_2 (power), 27 VDD_2 (power), 36 VSS_3 (power), 37 EP (power)

## STM32F103T8U6TR
designator U?
ARM Cortex-M3 32-bit MCU, 64 KB Flash, 20 KB Internal RAM, 26 I/Os, 36-pin VFQFPN, -40 to 85 degC, Tape and Reel; PartNumber: STM32F103T8U6TR; A/D Converter: 2x12-bit (10 Channel); FLASH Size (Prog) (kB): 64; I/Os (High Current): 26; Internal RAM Size (kB): 20; Operating Frequency(F) (Processor speed) (MHz): 72; Supply Voltage(Vcc) min (V): 2; DatasheetVersion: Rev. 16; PackageVersion: Rev. 16, 08/2013; PackageReference: VFQFPN36; PackageDescription: 36-Pin Quad Flat No-Lead, 6 x 6 x 1.0 mm Body, 0.5 mm Pitch, Exposed Pad; Supplier 1: Digi-Key; Supplier Part Number 1: STM32F103T8U6TR-ND; Supplier 2: Mouser; Supplier Part Number 2: 511-STM32F103T8U6TR; Core: ARM Cortex-M3; Packing: Tape and Reel; Mounting Technology: Surface Mount; ComponentLink1Description: Manufacturer URL; ComponentLink1URL: http://www.st.com/web/en/home.html; ComponentLink2Description: Datasheet; ComponentLink2URL: http://www.st.com/st-web-ui/static/active/en/resource/technical/document/datasheet/CD00161566.pdf; ComponentLink3Description: Package Specification; ComponentLink3URL: http://www.st.com/st-web-ui/static/active/en/resource/technical/document/datasheet/CD00161561.pdf
footprint STM-VFQFPN36_N (QFN, 36-Leads, Body 6.13x6.13mm, Pitch 0.5mm, Thermal Pad 3x3mm, IPC Medium Density)
footprint STM-VFQFPN36_L (QFN, 36-Leads, Body 6.13x6.13mm, Pitch 0.5mm, Thermal Pad 3x3mm, IPC High Density)
footprint STM-VFQFPN36_M (QFN, 36-Leads, Body 6.13x6.13mm, Pitch 0.5mm, Thermal Pad 3x3mm, IPC Low Density)
part A pins: 2 PD0-OSC_IN (io) "PD0/OSC_IN/CANRX", 3 PD1-OSC_OUT (io) "PD1/OSC_OUT/CANTX", 4 NRST (io), 7 PA0-WKUP (io) "PA0-WKUP/PA0/WKUP/USART2_CTS/ADC12_IN0/TIM2_CH1_ETR", 8 PA1 (io) "PA1/USART2_RTS/ADC12_IN1/TIM2_CH2", 9 PA2 (io) "PA2/USART2_TX/ADC12_IN2/TIM2_CH3", 10 PA3 (io) "PA3/USART2_RX/ADC12_IN3/TIM2_CH4", 11 PA4 (io) "PA4/SPI1_NSS/USART2_CK/ADC12_IN4", 12 PA5 (io) "PA5/SPI1_SCK/ADC12_IN5", 13 PA6 (io) "PA6/SPI1_MISO/ADC12_IN6/TIM3_CH1/TIM1_BKIN", 14 PA7 (io) "PA7/SPI1_MOSI/ADC12_IN7/TIM3_CH2/TIM1_CH1N", 15 PB0 (io) "PB0/ADC12_IN8/TIM3_CH3/TIM1_CH2N", 16 PB1 (io) "PB1/ADC12_IN9/TIM3_CH4/TIM1_CH3N", 17 PB2 (io) "PB2/BOOT1", 20 PA8 (io) "PA8/USART1_CK/TIM1_CH1/MCO", 21 PA9 (io) "PA9/USART1_TX/TIM1_CH2", 22 PA10 (io) "PA10/USART1_RX/TIM1_CH3", 23 PA11 (io) "PA11/USART1_CTS/CANRX/USBDM/TIM1_CH4", 24 PA12 (io) "PA12/USART1_RTS/CANTX/USBDP/TIM1_ETR", 25 PA13 (io) "PA13/JTMS/SWDIO", 28 PA14 (io) "PA14/JTCK/SWCLK", 29 PA15 (io) "PA15/JTDI/TIM2_CH1_ETR/SPI1_NSS", 30 PB3 (io) "PB3/JTDO/TIM2_CH2/TRACESWO/SPI1_SCK", 31 PB4 (io) "PB4/NJTRST/TIM3_CH1/SPI1_MISO", 32 PB5 (io) "PB5/I2C1_SMBAI/TIM3_CH2/SPI1_MOSI", 33 PB6 (io) "PB6/I2C1_SCL/TIM4_CH1/USART1_TX", 34 PB7 (io) "PB7/I2C1_SDA/TIM4_CH2/USART1_RX", 35 BOOT0 (in)
part B pins: 1 VDD_3 (power), 5 VSSA (power), 6 VDDA (power), 18 VSS_1 (power), 19 VDD_1 (power), 26 VSS_2 (power), 27 VDD_2 (power), 36 VSS_3 (power), 37 EP (power)

## STM32F103T8U7
designator U?
ARM Cortex-M3 32-bit MCU, 64 KB Flash, 20 KB Internal RAM, 26 I/Os, 36-pin VFQFPN, -40 to 105 degC, Tray; PartNumber: STM32F103T8U7; A/D Converter: 2x12-bit (10 Channel); FLASH Size (Prog) (kB): 64; I/Os (High Current): 26; Internal RAM Size (kB): 20; Operating Frequency(F) (Processor speed) (MHz): 72; Supply Voltage(Vcc) min (V): 2; DatasheetVersion: Rev. 16; PackageVersion: Rev. 16, 08/2013; PackageReference: VFQFPN36; PackageDescription: 36-Pin Quad Flat No-Lead, 6 x 6 x 1.0 mm Body, 0.5 mm Pitch, Exposed Pad; Supplier 1: Digi-Key; Supplier Part Number 1: 497-11533-ND; Supplier 2: Mouser; Supplier Part Number 2: 511-STM32F103T8U7; Core: ARM Cortex-M3; Packing: Tray; Mounting Technology: Surface Mount; ComponentLink1Description: Manufacturer URL; ComponentLink1URL: http://www.st.com/web/en/home.html; ComponentLink2Description: Datasheet; ComponentLink2URL: http://www.st.com/st-web-ui/static/active/en/resource/technical/document/datasheet/CD00161566.pdf; ComponentLink3Description: Package Specification; ComponentLink3URL: http://www.st.com/st-web-ui/static/active/en/resource/technical/document/datasheet/CD00161561.pdf
footprint STM-VFQFPN36_N (QFN, 36-Leads, Body 6.13x6.13mm, Pitch 0.5mm, Thermal Pad 3x3mm, IPC Medium Density)
footprint STM-VFQFPN36_L (QFN, 36-Leads, Body 6.13x6.13mm, Pitch 0.5mm, Thermal Pad 3x3mm, IPC High Density)
footprint STM-VFQFPN36_M (QFN, 36-Leads, Body 6.13x6.13mm, Pitch 0.5mm, Thermal Pad 3x3mm, IPC Low Density)
part A pins: 2 PD0-OSC_IN (io) "PD0/OSC_IN/CANRX", 3 PD1-OSC_OUT (io) "PD1/OSC_OUT/CANTX", 4 NRST (io), 7 PA0-WKUP (io) "PA0-WKUP/PA0/WKUP/USART2_CTS/ADC12_IN0/TIM2_CH1_ETR", 8 PA1 (io) "PA1/USART2_RTS/ADC12_IN1/TIM2_CH2", 9 PA2 (io) "PA2/USART2_TX/ADC12_IN2/TIM2_CH3", 10 PA3 (io) "PA3/USART2_RX/ADC12_IN3/TIM2_CH4", 11 PA4 (io) "PA4/SPI1_NSS/USART2_CK/ADC12_IN4", 12 PA5 (io) "PA5/SPI1_SCK/ADC12_IN5", 13 PA6 (io) "PA6/SPI1_MISO/ADC12_IN6/TIM3_CH1/TIM1_BKIN", 14 PA7 (io) "PA7/SPI1_MOSI/ADC12_IN7/TIM3_CH2/TIM1_CH1N", 15 PB0 (io) "PB0/ADC12_IN8/TIM3_CH3/TIM1_CH2N", 16 PB1 (io) "PB1/ADC12_IN9/TIM3_CH4/TIM1_CH3N", 17 PB2 (io) "PB2/BOOT1", 20 PA8 (io) "PA8/USART1_CK/TIM1_CH1/MCO", 21 PA9 (io) "PA9/USART1_TX/TIM1_CH2", 22 PA10 (io) "PA10/USART1_RX/TIM1_CH3", 23 PA11 (io) "PA11/USART1_CTS/CANRX/USBDM/TIM1_CH4", 24 PA12 (io) "PA12/USART1_RTS/CANTX/USBDP/TIM1_ETR", 25 PA13 (io) "PA13/JTMS/SWDIO", 28 PA14 (io) "PA14/JTCK/SWCLK", 29 PA15 (io) "PA15/JTDI/TIM2_CH1_ETR/SPI1_NSS", 30 PB3 (io) "PB3/JTDO/TIM2_CH2/TRACESWO/SPI1_SCK", 31 PB4 (io) "PB4/NJTRST/TIM3_CH1/SPI1_MISO", 32 PB5 (io) "PB5/I2C1_SMBAI/TIM3_CH2/SPI1_MOSI", 33 PB6 (io) "PB6/I2C1_SCL/TIM4_CH1/USART1_TX", 34 PB7 (io) "PB7/I2C1_SDA/TIM4_CH2/USART1_RX", 35 BOOT0 (in)
part B pins: 1 VDD_3 (power), 5 VSSA (power), 6 VDDA (power), 18 VSS_1 (power), 19 VDD_1 (power), 26 VSS_2 (power), 27 VDD_2 (power), 36 VSS_3 (power), 37 EP (power)

## STM32F103T8U7TR
designator U?
ARM Cortex-M3 32-bit MCU, 64 KB Flash, 20 KB Internal RAM, 26 I/Os, 36-pin VFQFPN, -40 to 105 degC, Tape and Reel; PartNumber: STM32F103T8U7TR; A/D Converter: 2x12-bit (10 channel); FLASH Size (Prog) (kB): 64; I/Os (High Current): 26; Internal RAM Size (kB): 20; Operating Frequency(F) (Processor speed) (MHz): 72; Supply Voltage(Vcc) min (V): 2; DatasheetVersion: Rev. 16; PackageVersion: Rev. 16, 08/2013; PackageReference: VFQFPN36; PackageDescription: 36-Pin Quad Flat No-Lead, 6 x 6 x 1.0 mm Body, 0.5 mm Pitch, Exposed Pad; Supplier 1: Digi-Key; Supplier Part Number 1: STM32F103T8U7TR-ND; Supplier 2: Newark; Supplier Part Number 2: 73T2306; Supplier 3: Mouser; Supplier Part Number 3: 511-STM32F103T8U7TR; Core: ARM Cortex-M3; Packing: Tape and Reel; Mounting Technology: Surface Mount; ComponentLink1Description: Manufacturer URL; ComponentLink1URL: http://www.st.com/web/en/home.html; ComponentLink2Description: Datasheet; ComponentLink2URL: http://www.st.com/st-web-ui/static/active/en/resource/technical/document/datasheet/CD00161566.pdf; ComponentLink3Description: Package Specification; ComponentLink3URL: http://www.st.com/st-web-ui/static/active/en/resource/technical/document/datasheet/CD00161561.pdf
footprint STM-VFQFPN36_N (QFN, 36-Leads, Body 6.13x6.13mm, Pitch 0.5mm, Thermal Pad 3x3mm, IPC Medium Density)
footprint STM-VFQFPN36_L (QFN, 36-Leads, Body 6.13x6.13mm, Pitch 0.5mm, Thermal Pad 3x3mm, IPC High Density)
footprint STM-VFQFPN36_M (QFN, 36-Leads, Body 6.13x6.13mm, Pitch 0.5mm, Thermal Pad 3x3mm, IPC Low Density)
part A pins: 2 PD0-OSC_IN (io) "PD0/OSC_IN/CANRX", 3 PD1-OSC_OUT (io) "PD1/OSC_OUT/CANTX", 4 NRST (io), 7 PA0-WKUP (io) "PA0-WKUP/PA0/WKUP/USART2_CTS/ADC12_IN0/TIM2_CH1_ETR", 8 PA1 (io) "PA1/USART2_RTS/ADC12_IN1/TIM2_CH2", 9 PA2 (io) "PA2/USART2_TX/ADC12_IN2/TIM2_CH3", 10 PA3 (io) "PA3/USART2_RX/ADC12_IN3/TIM2_CH4", 11 PA4 (io) "PA4/SPI1_NSS/USART2_CK/ADC12_IN4", 12 PA5 (io) "PA5/SPI1_SCK/ADC12_IN5", 13 PA6 (io) "PA6/SPI1_MISO/ADC12_IN6/TIM3_CH1/TIM1_BKIN", 14 PA7 (io) "PA7/SPI1_MOSI/ADC12_IN7/TIM3_CH2/TIM1_CH1N", 15 PB0 (io) "PB0/ADC12_IN8/TIM3_CH3/TIM1_CH2N", 16 PB1 (io) "PB1/ADC12_IN9/TIM3_CH4/TIM1_CH3N", 17 PB2 (io) "PB2/BOOT1", 20 PA8 (io) "PA8/USART1_CK/TIM1_CH1/MCO", 21 PA9 (io) "PA9/USART1_TX/TIM1_CH2", 22 PA10 (io) "PA10/USART1_RX/TIM1_CH3", 23 PA11 (io) "PA11/USART1_CTS/CANRX/USBDM/TIM1_CH4", 24 PA12 (io) "PA12/USART1_RTS/CANTX/USBDP/TIM1_ETR", 25 PA13 (io) "PA13/JTMS/SWDIO", 28 PA14 (io) "PA14/JTCK/SWCLK", 29 PA15 (io) "PA15/JTDI/TIM2_CH1_ETR/SPI1_NSS", 30 PB3 (io) "PB3/JTDO/TIM2_CH2/TRACESWO/SPI1_SCK", 31 PB4 (io) "PB4/NJTRST/TIM3_CH1/SPI1_MISO", 32 PB5 (io) "PB5/I2C1_SMBAI/TIM3_CH2/SPI1_MOSI", 33 PB6 (io) "PB6/I2C1_SCL/TIM4_CH1/USART1_TX", 34 PB7 (io) "PB7/I2C1_SDA/TIM4_CH2/USART1_RX", 35 BOOT0 (in)
part B pins: 1 VDD_3 (power), 5 VSSA (power), 6 VDDA (power), 18 VSS_1 (power), 19 VDD_1 (power), 26 VSS_2 (power), 27 VDD_2 (power), 36 VSS_3 (power), 37 EP (power)

## STM32F103TBU6
designator U?
ARM Cortex-M3 32-bit MCU, 128 KB Flash, 20 KB Internal RAM, 26 I/Os, 36-pin VFQFPN, -40 to 85 degC, Tray; PartNumber: STM32F103TBU6; A/D Converter: 2x12-bit (10 channel); FLASH Size (Prog) (kB): 128; I/Os (High Current): 26; Internal RAM Size (kB): 20; Operating Frequency(F) (Processor speed) (MHz): 72; Supply Voltage(Vcc) min (V): 2; DatasheetVersion: Rev. 16; PackageVersion: Rev. 16, 08/2013; PackageReference: VFQFPN36; PackageDescription: 36-Pin Quad Flat No-Lead, 6 x 6 x 1.0 mm Body, 0.5 mm Pitch, Exposed Pad; Supplier 1: Digi-Key; Supplier Part Number 1: 497-11534-ND; Supplier 2: Farnell; Supplier Part Number 2: 1899015; Supplier 3: Newark; Supplier Part Number 3: 73T7106; Supplier 4: Newark; Supplier Part Number 4: 90R9225; Supplier 5: Mouser; Supplier Part Number 5: 511-STM32F103TBU6; Core: ARM Cortex-M3; Packing: Tray; Mounting Technology: Surface Mount; ComponentLink1Description: Manufacturer URL; ComponentLink1URL: http://www.st.com/web/en/home.html; ComponentLink2Description: Datasheet; ComponentLink2URL: http://www.st.com/st-web-ui/static/active/en/resource/technical/document/datasheet/CD00161566.pdf; ComponentLink3Description: Package Specification; ComponentLink3URL: http://www.st.com/st-web-ui/static/active/en/resource/technical/document/datasheet/CD00161561.pdf
footprint STM-VFQFPN36_N (QFN, 36-Leads, Body 6.13x6.13mm, Pitch 0.5mm, Thermal Pad 3x3mm, IPC Medium Density)
footprint STM-VFQFPN36_L (QFN, 36-Leads, Body 6.13x6.13mm, Pitch 0.5mm, Thermal Pad 3x3mm, IPC High Density)
footprint STM-VFQFPN36_M (QFN, 36-Leads, Body 6.13x6.13mm, Pitch 0.5mm, Thermal Pad 3x3mm, IPC Low Density)
part A pins: 2 PD0-OSC_IN (io) "PD0/OSC_IN/CANRX", 3 PD1-OSC_OUT (io) "PD1/OSC_OUT/CANTX", 4 NRST (io), 7 PA0-WKUP (io) "PA0-WKUP/PA0/WKUP/USART2_CTS/ADC12_IN0/TIM2_CH1_ETR", 8 PA1 (io) "PA1/USART2_RTS/ADC12_IN1/TIM2_CH2", 9 PA2 (io) "PA2/USART2_TX/ADC12_IN2/TIM2_CH3", 10 PA3 (io) "PA3/USART2_RX/ADC12_IN3/TIM2_CH4", 11 PA4 (io) "PA4/SPI1_NSS/USART2_CK/ADC12_IN4", 12 PA5 (io) "PA5/SPI1_SCK/ADC12_IN5", 13 PA6 (io) "PA6/SPI1_MISO/ADC12_IN6/TIM3_CH1/TIM1_BKIN", 14 PA7 (io) "PA7/SPI1_MOSI/ADC12_IN7/TIM3_CH2/TIM1_CH1N", 15 PB0 (io) "PB0/ADC12_IN8/TIM3_CH3/TIM1_CH2N", 16 PB1 (io) "PB1/ADC12_IN9/TIM3_CH4/TIM1_CH3N", 17 PB2 (io) "PB2/BOOT1", 20 PA8 (io) "PA8/USART1_CK/TIM1_CH1/MCO", 21 PA9 (io) "PA9/USART1_TX/TIM1_CH2", 22 PA10 (io) "PA10/USART1_RX/TIM1_CH3", 23 PA11 (io) "PA11/USART1_CTS/CANRX/USBDM/TIM1_CH4", 24 PA12 (io) "PA12/USART1_RTS/CANTX/USBDP/TIM1_ETR", 25 PA13 (io) "PA13/JTMS/SWDIO", 28 PA14 (io) "PA14/JTCK/SWCLK", 29 PA15 (io) "PA15/JTDI/TIM2_CH1_ETR/SPI1_NSS", 30 PB3 (io) "PB3/JTDO/TIM2_CH2/TRACESWO/SPI1_SCK", 31 PB4 (io) "PB4/NJTRST/TIM3_CH1/SPI1_MISO", 32 PB5 (io) "PB5/I2C1_SMBAI/TIM3_CH2/SPI1_MOSI", 33 PB6 (io) "PB6/I2C1_SCL/TIM4_CH1/USART1_TX", 34 PB7 (io) "PB7/I2C1_SDA/TIM4_CH2/USART1_RX", 35 BOOT0 (in)
part B pins: 1 VDD_3 (power), 5 VSSA (power), 6 VDDA (power), 18 VSS_1 (power), 19 VDD_1 (power), 26 VSS_2 (power), 27 VDD_2 (power), 36 VSS_3 (power), 37 EP (power)

## STM32F103TBU7
designator U?
ARM Cortex-M3 32-bit MCU, 128 KB Flash, 20 KB Internal RAM, 26 I/Os, 36-pin VFQFPN, -40 to 105 degC, Tray; PartNumber: STM32F103TBU7; A/D Converter: 2x12-bit (10 channel); FLASH Size (Prog) (kB): 128; I/Os (High Current): 26; Internal RAM Size (kB): 20; Operating Frequency(F) (Processor speed) (MHz): 72; Supply Voltage(Vcc) min (V): 2; DatasheetVersion: Rev. 16; PackageVersion: Rev. 16, 08/2013; PackageReference: VFQFPN36; PackageDescription: 36-Pin Quad Flat No-Lead, 6 x 6 x 1.0 mm Body, 0.5 mm Pitch, Exposed Pad; Supplier 1: Digi-Key; Supplier Part Number 1: STM32F103TBU7-ND; Supplier 2: Newark; Supplier Part Number 2: 73T2304; Supplier 3: Mouser; Supplier Part Number 3: 511-STM32F103TBU7; Core: ARM Cortex-M3; Packing: Tray; Mounting Technology: Surface Mount; ComponentLink1Description: Manufacturer URL; ComponentLink1URL: http://www.st.com/web/en/home.html; ComponentLink2Description: Datasheet; ComponentLink2URL: http://www.st.com/st-web-ui/static/active/en/resource/technical/document/datasheet/CD00161566.pdf; ComponentLink3Description: Package Specification; ComponentLink3URL: http://www.st.com/st-web-ui/static/active/en/resource/technical/document/datasheet/CD00161561.pdf
footprint STM-VFQFPN36_N (QFN, 36-Leads, Body 6.13x6.13mm, Pitch 0.5mm, Thermal Pad 3x3mm, IPC Medium Density)
footprint STM-VFQFPN36_L (QFN, 36-Leads, Body 6.13x6.13mm, Pitch 0.5mm, Thermal Pad 3x3mm, IPC High Density)
footprint STM-VFQFPN36_M (QFN, 36-Leads, Body 6.13x6.13mm, Pitch 0.5mm, Thermal Pad 3x3mm, IPC Low Density)
part A pins: 2 PD0-OSC_IN (io) "PD0/OSC_IN/CANRX", 3 PD1-OSC_OUT (io) "PD1/OSC_OUT/CANTX", 4 NRST (io), 7 PA0-WKUP (io) "PA0-WKUP/PA0/WKUP/USART2_CTS/ADC12_IN0/TIM2_CH1_ETR", 8 PA1 (io) "PA1/USART2_RTS/ADC12_IN1/TIM2_CH2", 9 PA2 (io) "PA2/USART2_TX/ADC12_IN2/TIM2_CH3", 10 PA3 (io) "PA3/USART2_RX/ADC12_IN3/TIM2_CH4", 11 PA4 (io) "PA4/SPI1_NSS/USART2_CK/ADC12_IN4", 12 PA5 (io) "PA5/SPI1_SCK/ADC12_IN5", 13 PA6 (io) "PA6/SPI1_MISO/ADC12_IN6/TIM3_CH1/TIM1_BKIN", 14 PA7 (io) "PA7/SPI1_MOSI/ADC12_IN7/TIM3_CH2/TIM1_CH1N", 15 PB0 (io) "PB0/ADC12_IN8/TIM3_CH3/TIM1_CH2N", 16 PB1 (io) "PB1/ADC12_IN9/TIM3_CH4/TIM1_CH3N", 17 PB2 (io) "PB2/BOOT1", 20 PA8 (io) "PA8/USART1_CK/TIM1_CH1/MCO", 21 PA9 (io) "PA9/USART1_TX/TIM1_CH2", 22 PA10 (io) "PA10/USART1_RX/TIM1_CH3", 23 PA11 (io) "PA11/USART1_CTS/CANRX/USBDM/TIM1_CH4", 24 PA12 (io) "PA12/USART1_RTS/CANTX/USBDP/TIM1_ETR", 25 PA13 (io) "PA13/JTMS/SWDIO", 28 PA14 (io) "PA14/JTCK/SWCLK", 29 PA15 (io) "PA15/JTDI/TIM2_CH1_ETR/SPI1_NSS", 30 PB3 (io) "PB3/JTDO/TIM2_CH2/TRACESWO/SPI1_SCK", 31 PB4 (io) "PB4/NJTRST/TIM3_CH1/SPI1_MISO", 32 PB5 (io) "PB5/I2C1_SMBAI/TIM3_CH2/SPI1_MOSI", 33 PB6 (io) "PB6/I2C1_SCL/TIM4_CH1/USART1_TX", 34 PB7 (io) "PB7/I2C1_SDA/TIM4_CH2/USART1_RX", 35 BOOT0 (in)
part B pins: 1 VDD_3 (power), 5 VSSA (power), 6 VDDA (power), 18 VSS_1 (power), 19 VDD_1 (power), 26 VSS_2 (power), 27 VDD_2 (power), 36 VSS_3 (power), 37 EP (power)

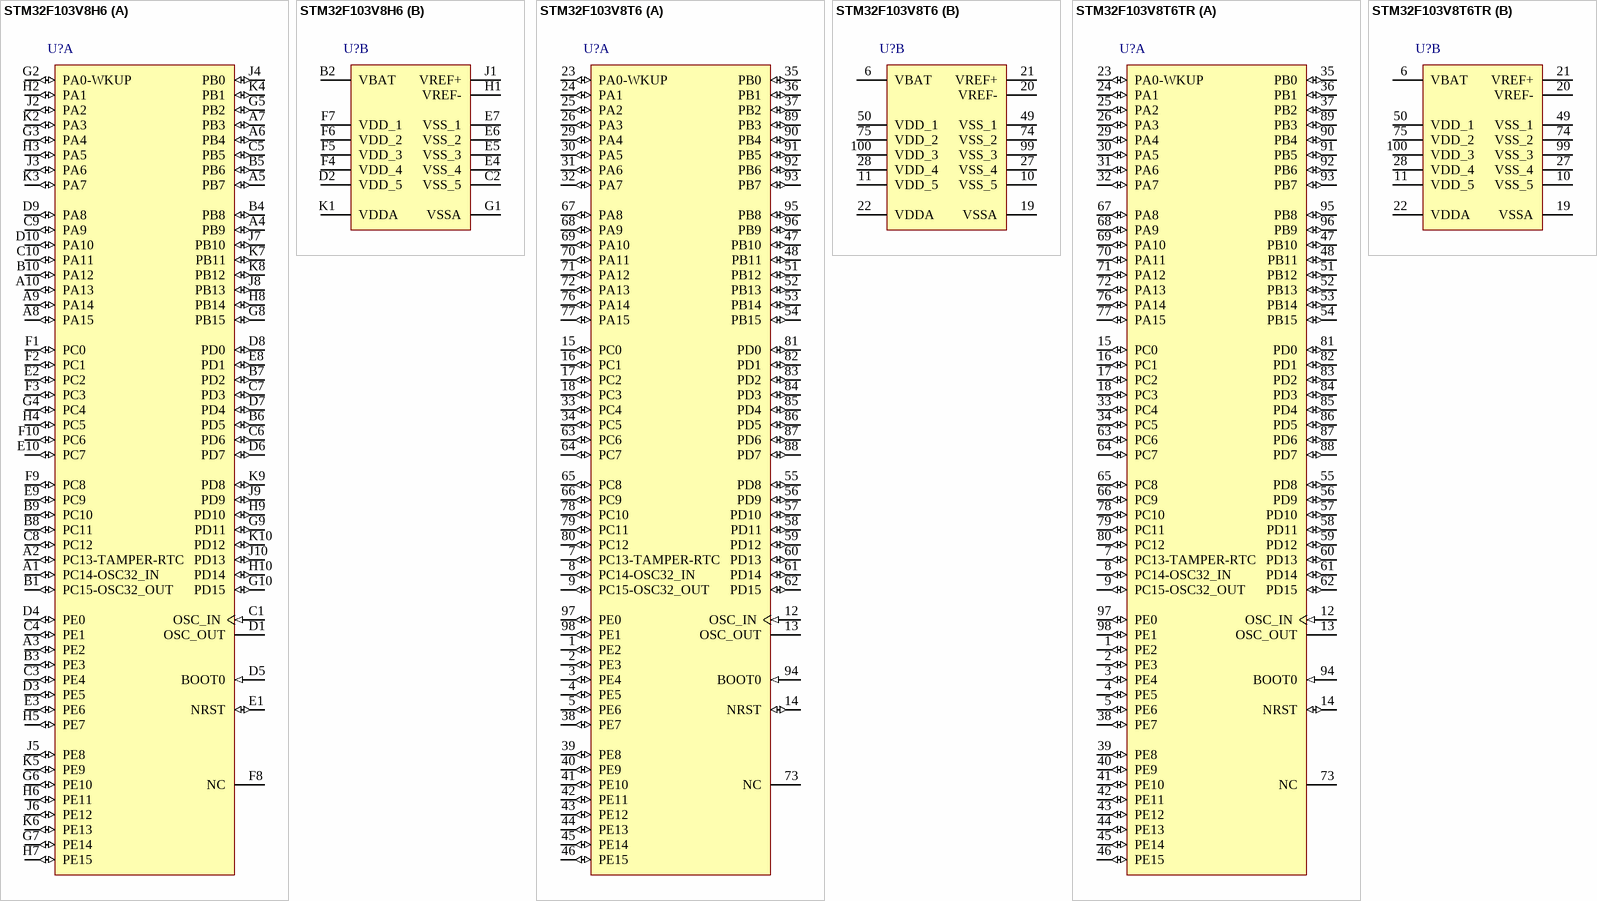
[diagram p31: symbols STM32F103V8H6 to STM32F103V8T6TR]

## STM32F103V8H6
designator U?
ARM Cortex-M3 32-bit MCU, 64 KB Flash, 20 KB Internal RAM, 80 I/Os, 100-pin LFBGA, -40 to 85 degC, Tray; PartNumber: STM32F103V8H6; A/D Converter: 2x12-bit (16 channel); FLASH Size (Prog) (kB): 64; I/Os (High Current): 80; Internal RAM Size (kB): 20; Operating Frequency(F) (Processor speed) (MHz): 72; Supply Voltage(Vcc) min (V): 2; DatasheetVersion: Rev. 16; PackageVersion: Rev. 8, 04/2011; PackageReference: LFBGA100; PackageDescription: 100-Ball Low Profile Fine Pitch BGA, 10 x 10 x 1.7 mm Body, 0.8 mm Pitch; Supplier 1: Digi-Key; Supplier Part Number 1: 497-6067-ND; Supplier 2: Newark; Supplier Part Number 2: 99W9807; Supplier 3: Mouser; Supplier Part Number 3: 511-STM32F103V8H6; Core: ARM Cortex-M3; Packing: Tray; Mounting Technology: Surface Mount; ComponentLink1Description: Manufacturer URL; ComponentLink1URL: http://www.st.com/web/en/home.html; ComponentLink2Description: Datasheet; ComponentLink2URL: http://www.st.com/st-web-ui/static/active/en/resource/technical/document/datasheet/CD00161566.pdf; ComponentLink3Description: Package Specification; ComponentLink3URL: http://www.st.com/st-web-ui/static/active/en/resource/technical/document/datasheet/CD00191185.pdf
footprint STM-LFBGA100 (BGA, 100-Balls, Body 10x10mm, Pitch 0.8mm)
part A pins: A1 PC14-OSC32_IN (io) "PC14-OSC32_IN/PC14/OSC32_IN", A2 PC13-TAMPER-RTC (io) "PC13-TAMPER-RTC/PC13/TAMPER-RTC", A3 PE2 (io) "PE2/TRACECK", A4 PB9 (io) "PB9/TIM4_CH4/I2C1_SDA/CANTX", A5 PB7 (io) "PB7/I2C1_SDA/TIM4_CH2/USART1_RX", A6 PB4 (io) "PB4/NJTRST/TIM3_CH1/SPI1_MISO", A7 PB3 (io) "PB3/JTDO/TIM2_CH2/TRACESWO/SPI1_SCK", A8 PA15 (io) "PA15/JTDI/TIM2_CH1_ETR/SPI1_NSS", A9 PA14 (io) "PA14/JTCK/SWCLK", A10 PA13 (io) "PA13/JTMS/SWDIO", B1 PC15-OSC32_OUT (io) "PC15-OSC32_OUT/PC15/OSC32_OUT", B3 PE3 (io) "PE3/TRACED0", B4 PB8 (io) "PB8/TIM4_CH3/I2C1_SCL/CANRX", B5 PB6 (io) "PB6/I2C1_SCL/TIM4_CH1/USART1_TX", B6 PD5 (io) "PD5/USART2_TX", B7 PD2 (io) "PD2/TIM3_ETR", B8 PC11 (io) "PC11/USART3_RX", B9 PC10 (io) "PC10/USART3_TX", B10 PA12 (io) "PA12/USART1_RTS/CANTX/USBDP/TIM1_ETR", C1 OSC_IN (in), C3 PE4 (io) "PE4/TRACED1", C4 PE1 (io), C5 PB5 (io) "PB5/I2C1_SMBAI/TIM3_CH2/SPI1_MOSI", C6 PD6 (io) "PD6/USART2_RX", C7 PD3 (io) "PD3/USART2_CTS", C8 PC12 (io) "PC12/USART3_CK", C9 PA9 (io) "PA9/USART1_TX/TIM1_CH2", C10 PA11 (io) "PA11/USART1_CTS/CANRX/USBDM/TIM1_CH4", D1 OSC_OUT, D3 PE5 (io) "PE5/TRACED2", D4 PE0 (io) "PE0/TIM4_ETR", D5 BOOT0 (in), D6 PD7 (io) "PD7/USART2_CK", D7 PD4 (io) "PD4/USART2_RTS", D8 PD0 (io) "PD0/CANRX", D9 PA8 (io) "PA8/USART1_CK/TIM1_CH1/MCO", D10 PA10 (io) "PA10/USART1_RX/TIM1_CH3", E1 NRST (io), E2 PC2 (io) "PC2/ADC12_IN12", E3 PE6 (io) "PE6/TRACED3", E8 PD1 (io) "PD1/CANTX", E9 PC9 (io) "PC9/TIM3_CH4", E10 PC7 (io) "PC7/TIM3_CH2", F1 PC0 (io) "PC0/ADC12_IN10", F2 PC1 (io) "PC1/ADC12_IN11", F3 PC3 (io) "PC3/ADC12_IN13", F8 NC, F9 PC8 (io) "PC8/TIM3_CH3", F10 PC6 (io) "PC6/TIM3_CH1", G2 PA0-WKUP (io) "PA0-WKUP/PA0/WKUP/USART2_CTS/ADC12_IN0/TIM2_CH1_ETR", G3 PA4 (io) "PA4/SPI1_NSS/USART2_CK/ADC12_IN4", G4 PC4 (io) "PC4/ADC12_IN14", G5 PB2 (io) "PB2/BOOT1", G6 PE10 (io) "PE10/TIM1_CH2N", G7 PE14 (io) "PE14/TIM1_CH4", G8 PB15 (io) "PB15/SPI2_MOSI/TIM1_CH3N", G9 PD11 (io) "PD11/USART3_CTS", G10 PD15 (io) "PD15/TIM4_CH4", H2 PA1 (io) "PA1/USART2_RTS/ADC12_IN1/TIM2_CH2", H3 PA5 (io) "PA5/SPI1_SCK/ADC12_IN5", H4 PC5 (io) "PC5/ADC12_IN15", H5 PE7 (io) "PE7/TIM1_ETR", H6 PE11 (io) "PE11/TIM1_CH2", H7 PE15 (io) "PE15/TIM1_BKIN", H8 PB14 (io) "PB14/SPI2_MISO/USART3_RTS/TIM1_CH2N", H9 PD10 (io) "PD10/USART3_CK", H10 PD14 (io) "PD14/TIM4_CH3", J2 PA2 (io) "PA2/USART2_TX/ADC12_IN2/TIM2_CH3", J3 PA6 (io) "PA6/SPI1_MISO/ADC12_IN6/TIM3_CH1/TIM1_BKIN", J4 PB0 (io) "PB0/ADC12_IN8/TIM3_CH3/TIM1_CH2N", J5 PE8 (io) "PE8/TIM1_CH1N", J6 PE12 (io) "PE12/TIM1_CH3N", J7 PB10 (io) "PB10/I2C2_SCL/USART3_TX/TIM2_CH3", J8 PB13 (io) "PB13/SPI2_SCK/USART3_CTS/TIM1_CH1N", J9 PD9 (io) "PD9/USART3_RX", J10 PD13 (io) "PD13/TIM4_CH2", K2 PA3 (io) "PA3/USART2_RX/ADC12_IN3/TIM2_CH4", K3 PA7 (io) "PA7/SPI1_MOSI/ADC12_IN7/TIM3_CH2/TIM1_CH1N", K4 PB1 (io) "PB1/ADC12_IN9/TIM3_CH4/TIM1_CH3N", K5 PE9 (io) "PE9/TIM1_CH1", K6 PE13 (io) "PE13/TIM1_CH3", K7 PB11 (io) "PB11/I2C2_SDA/USART3_RX/TIM2_CH4", K8 PB12 (io) "PB12/SPI2_NSS/I2C2_SMBAl/USART3_CK/TIM1_BKIN", K9 PD8 (io) "PD8/USART3_TX", K10 PD12 (io) "PD12/TIM4_CH1/USART3_RTS"
part B pins: B2 VBAT (power), C2 VSS_5 (power), D2 VDD_5 (power), E4 VSS_4 (power), E5 VSS_3 (power), E6 VSS_2 (power), E7 VSS_1 (power), F4 VDD_4 (power), F5 VDD_3 (power), F6 VDD_2 (power), F7 VDD_1 (power), G1 VSSA (power), H1 VREF- (power), J1 VREF+ (power), K1 VDDA (power)